# EAGLE library part DS1337 (library 000001)
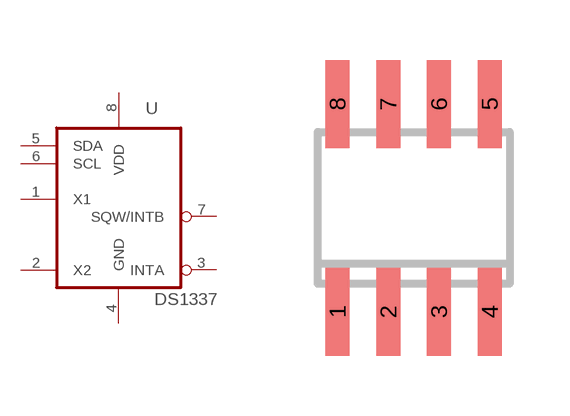
[diagram p56: symbol with the pads of SO08; footprint SO08]

Designator prefix -

## DS1337S  [SO08]
1  X1  in
2  X2  in
3  INTA  out
4  GND  pwr
5  SDA
6  SCL
7  SQW/INTB  out
8  VDD  pwr

## Footprint SO08 (pad centres in mm)
Small Outline Package 8 NS Package M08A
smd 0.6 x 2.2: 1 -1.905,-2.6; 2 -0.635,-2.6; 3 0.635,-2.6; 4 1.905,-2.6; 5 1.905,2.6; 6 0.635,2.6; 7 -0.635,2.6; 8 -1.905,2.6